# Altium schematic symbol library Symbols.SchLib: 143 symbols (part 2 of 5)
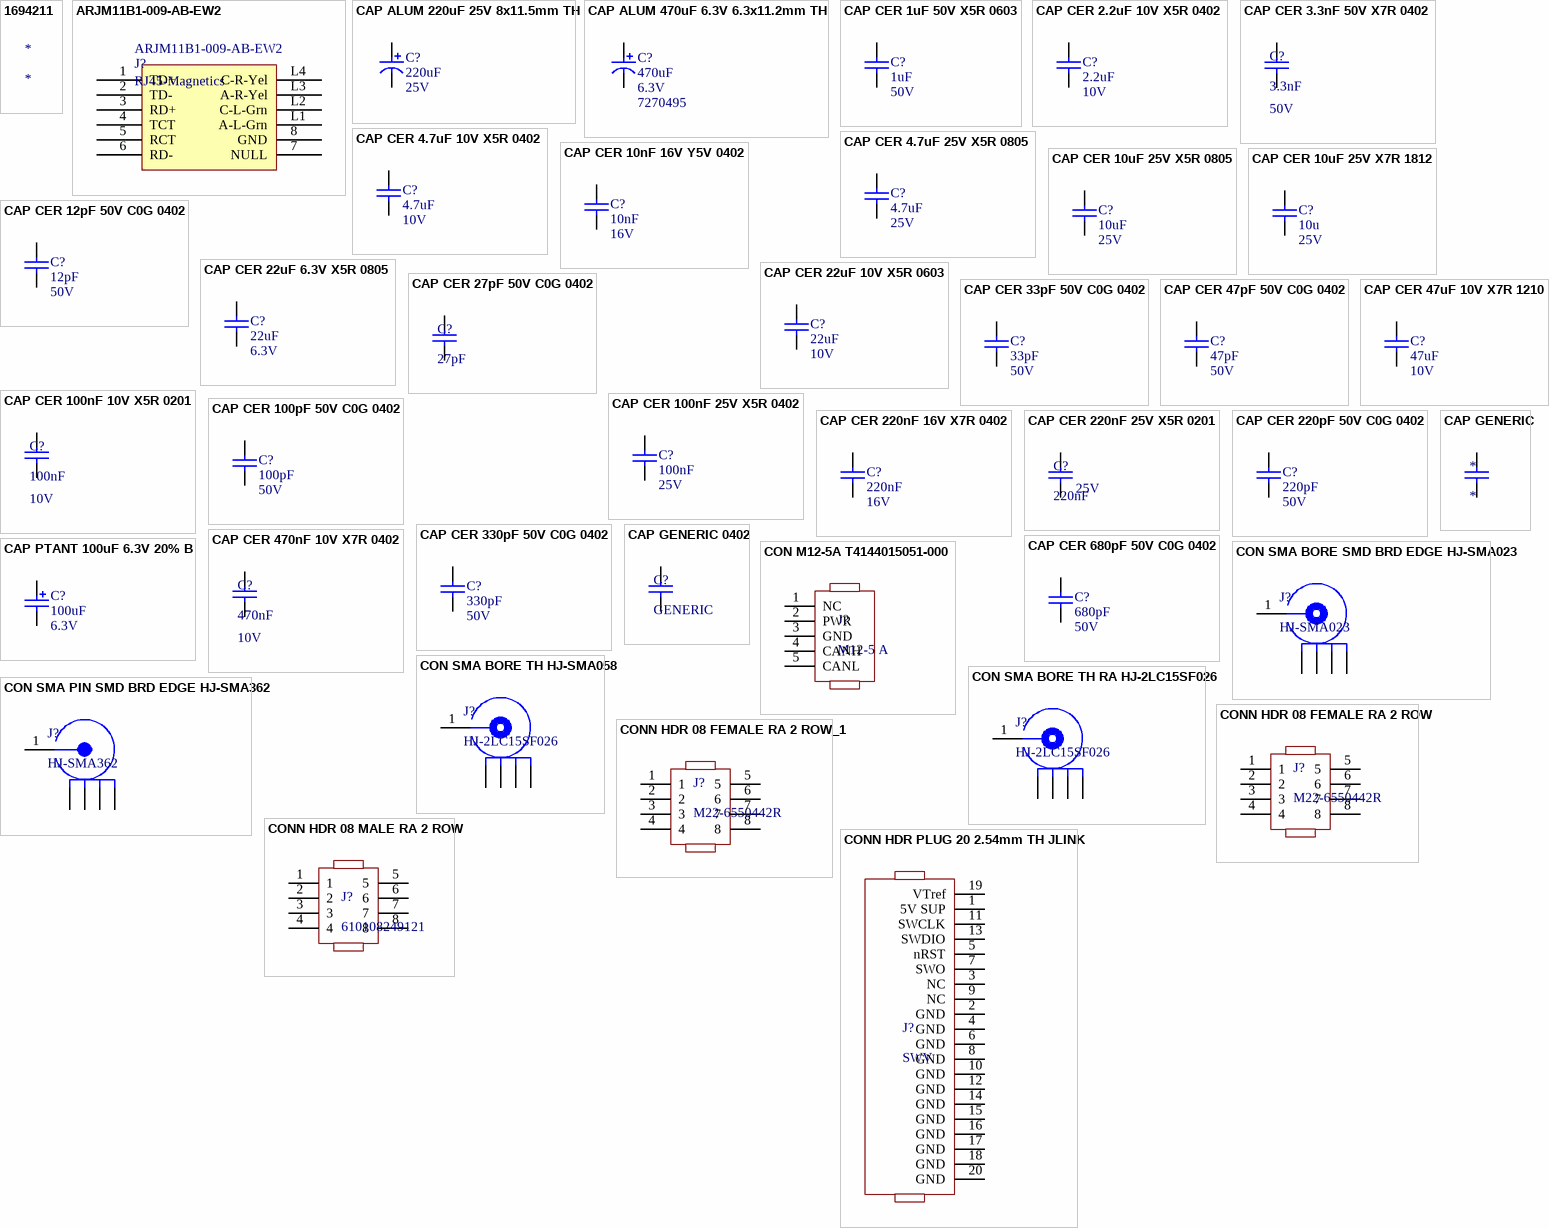
[diagram p4: symbols 1694211 to CONN HDR PLUG 20 2.54mm TH JLINK]

## CONN HDR 08 FEMALE RA 2 ROW
designator J?, comment M22-6550442R
Conn Socket Strip RCP 8 POS 2mm Solder RA SMD T/R; Manufacturer: Harwin; Connector Type: Receptacle,Forked; Number of Positions: 8; Current Rating: 2A; Supplier 1: Newark; Manufacturer Part Number: M22-6550442R; RoHS: Yes; Category: Connectors; Stock 1: 750; Pricing 1: 1=1.17000, 100=0.91900, 250=0.84000, 500=0.76600, 1000=0.71200 (USD); Mount: Surface Mount; Contact Plating: Gold; Contact Material: Bronze; Insulation Color: Black; Insulation Material: Polymer; Contact Shape: Square; Min Operating Temperature: -40°C; Max Operating Temperature: 105°C; Fastening Type: Push,Pull; Packaging: Cut Tape; Number of Rows: 2; Termination: Solder; Flammability Rating: UL94 V-0; RoHS Compliant: Yes; ComponentLink1URL: https://cdn.harwin.com/pdfs/M22-655R.pdf?src-supplier=Digi-Key; ComponentLink1Description: https://cdn.harwin.com/pdfs/M22-655R.pdf?src-supplier=Digi-Key; Supplier Part Number 1: 45AJ6425
footprint CONN HDR 08 FEMALE RA 2ROW
pins: 1, 2, 3, 4, 5, 6, 7, 8

## CONN HDR 08 FEMALE RA 2 ROW_1
designator J?, comment M22-6550442R
Conn Socket Strip RCP 8 POS 2mm Solder RA SMD T/R; Manufacturer: Harwin; Connector Type: Receptacle,Forked; Number of Positions: 8; Current Rating: 2A; Supplier 1: Newark; Manufacturer Part Number: M22-6550442R; RoHS: Yes; Category: Connectors; Stock 1: 750; Pricing 1: 1=1.17000, 100=0.91900, 250=0.84000, 500=0.76600, 1000=0.71200 (USD); Mount: Surface Mount; Contact Plating: Gold; Contact Material: Bronze; Insulation Color: Black; Insulation Material: Polymer; Contact Shape: Square; Min Operating Temperature: -40°C; Max Operating Temperature: 105°C; Fastening Type: Push,Pull; Packaging: Cut Tape; Number of Rows: 2; Termination: Solder; Flammability Rating: UL94 V-0; RoHS Compliant: Yes; ComponentLink1URL: https://cdn.harwin.com/pdfs/M22-655R.pdf?src-supplier=Digi-Key; ComponentLink1Description: https://cdn.harwin.com/pdfs/M22-655R.pdf?src-supplier=Digi-Key; Supplier Part Number 1: 45AJ6425
footprint CONN HDR 08 FEMALE RA 2ROW
pins: 1, 2, 3, 4, 5, 6, 7, 8

## CONN HDR 08 MALE RA 2 ROW
designator J?, comment 610108249121
SMT Angled Pin Header WR-PHD, Pitch 2.54 mm, Dual Row, 8 pins; Manufacturer: Wurth Electronics; Current Rating: 3A; Number of Positions: 8; Gender: Male; Voltage Rating: 250V; Pitch: 0.1inch; Supplier 1: Newark; Manufacturer Part Number: 610108249121; RoHS: Yes; Category: Connectors; Stock 1: 350; Pricing 1: 1=1.53000, 10=1.52000, 25=1.49000, 50=1.46000, 100=1.36000 (USD); Mount: Surface Mount; Number of Pins: 8; Contact Material: Copper Alloy; Color: Black; Contact Plating: Gold; Contact Shape: Square; Contact Finish - Mating: GOLD; Insulation Material: Nylon; Insulation Color: Black; Packaging: Cut Tape; Number of Rows: 2; Termination: Solder; Number of Contacts: 8; Connector Type: Header; Fastening Type: Pull; Series: WR-PHD; Contact Type: Male Pin; Row Spacing: 0.1inch; Contact Mating Length: 0.236inch; RoHS Compliant: Yes; Flammability Rating: UL94 V-0; ComponentLink1URL: http://www.farnell.com/cad/1889791.pdf?src-supplier=Element14; ComponentLink1Description: http://www.farnell.com/cad/1889791.pdf?src-supplier=Element14; ComponentLink2URL: https://katalog.we-online.de/em/datasheet/6101xx249121.pdf?src-supplier=Digi-Key; ComponentLink2Description: https://katalog.we-online.de/em/datasheet/6101xx249121.pdf?src-supplier=Digi-Key; ComponentLink3URL: https://www.distrelec.bizhttp://katalog.we-online.de/em/datasheet/6101xx249121.pdf?mime=application%2Fpdf&src-supplier=Distrelec; ComponentLink3Description: https://www.distrelec.bizhttp://katalog.we-online.de/em/datasheet/6101xx249121.pdf?mime=application%2Fpdf&src-supplier=Distrelec; Supplier Part Number 1: 72Y1215
footprint CONN HDR 08 MALE RA 2ROW - duplicate
pins: 1, 2, 3, 4, 5, 6, 7, 8

## CONN HDR PLUG 20 2.54mm TH JLINK
designator J?, comment SWV
Female, 20C, Straight .100"CC; No Mt. w/Center Polarizing Key; PBT, Brass, Gold Flash, 105 C; Manufacturer: Sullins; Manufacturer Part Number: SFH11-PBPC-D10-ST-BK; Number of Positions: 20; Connector Type: Header; Pitch: 0.1inch; Supplier 1: Digi-Key; RoHS: Yes; Category: Headers and Wire Housings; Stock 1: 18166; Pricing 1: 1=1.15000, 10=0.96800, 80=0.86925, 440=0.71118, 1000=0.63216, 5000=0.57070 (USD); Mount: Through Hole; Color: Black; Contact Plating: Gold; Package Quantity: 1; Number of Rows: 2; Packaging: Tray; Termination: Solder; Series: SFH11; Contact Type: Female Socket; Row Spacing: 0.1inch; Lead Free: Lead Free; RoHS Compliant: Yes; ComponentLink1URL: https://datasheet.ciiva.com/754/sfh11-pxxc-dxx-st-xx11160-c-754558.pdf?src-supplier=Digi-Key; ComponentLink1Description: https://datasheet.ciiva.com/754/sfh11-pxxc-dxx-st-xx11160-c-754558.pdf?src-supplier=Digi-Key; Supplier Part Number 1: S9197-ND
footprint CONN HDR PLUG 20 2.54 TH STLINKV2
pins: 1 5V SUP, 2 GND, 3 NC, 4 GND, 5 nRST, 6 GND, 7 SWO, 8 GND, 9 NC, 10 GND, 11 SWCLK, 12 GND, 13 SWDIO, 14 GND, 15 GND, 16 GND, 17 GND, 18 GND, 19 VTref, 20 GND

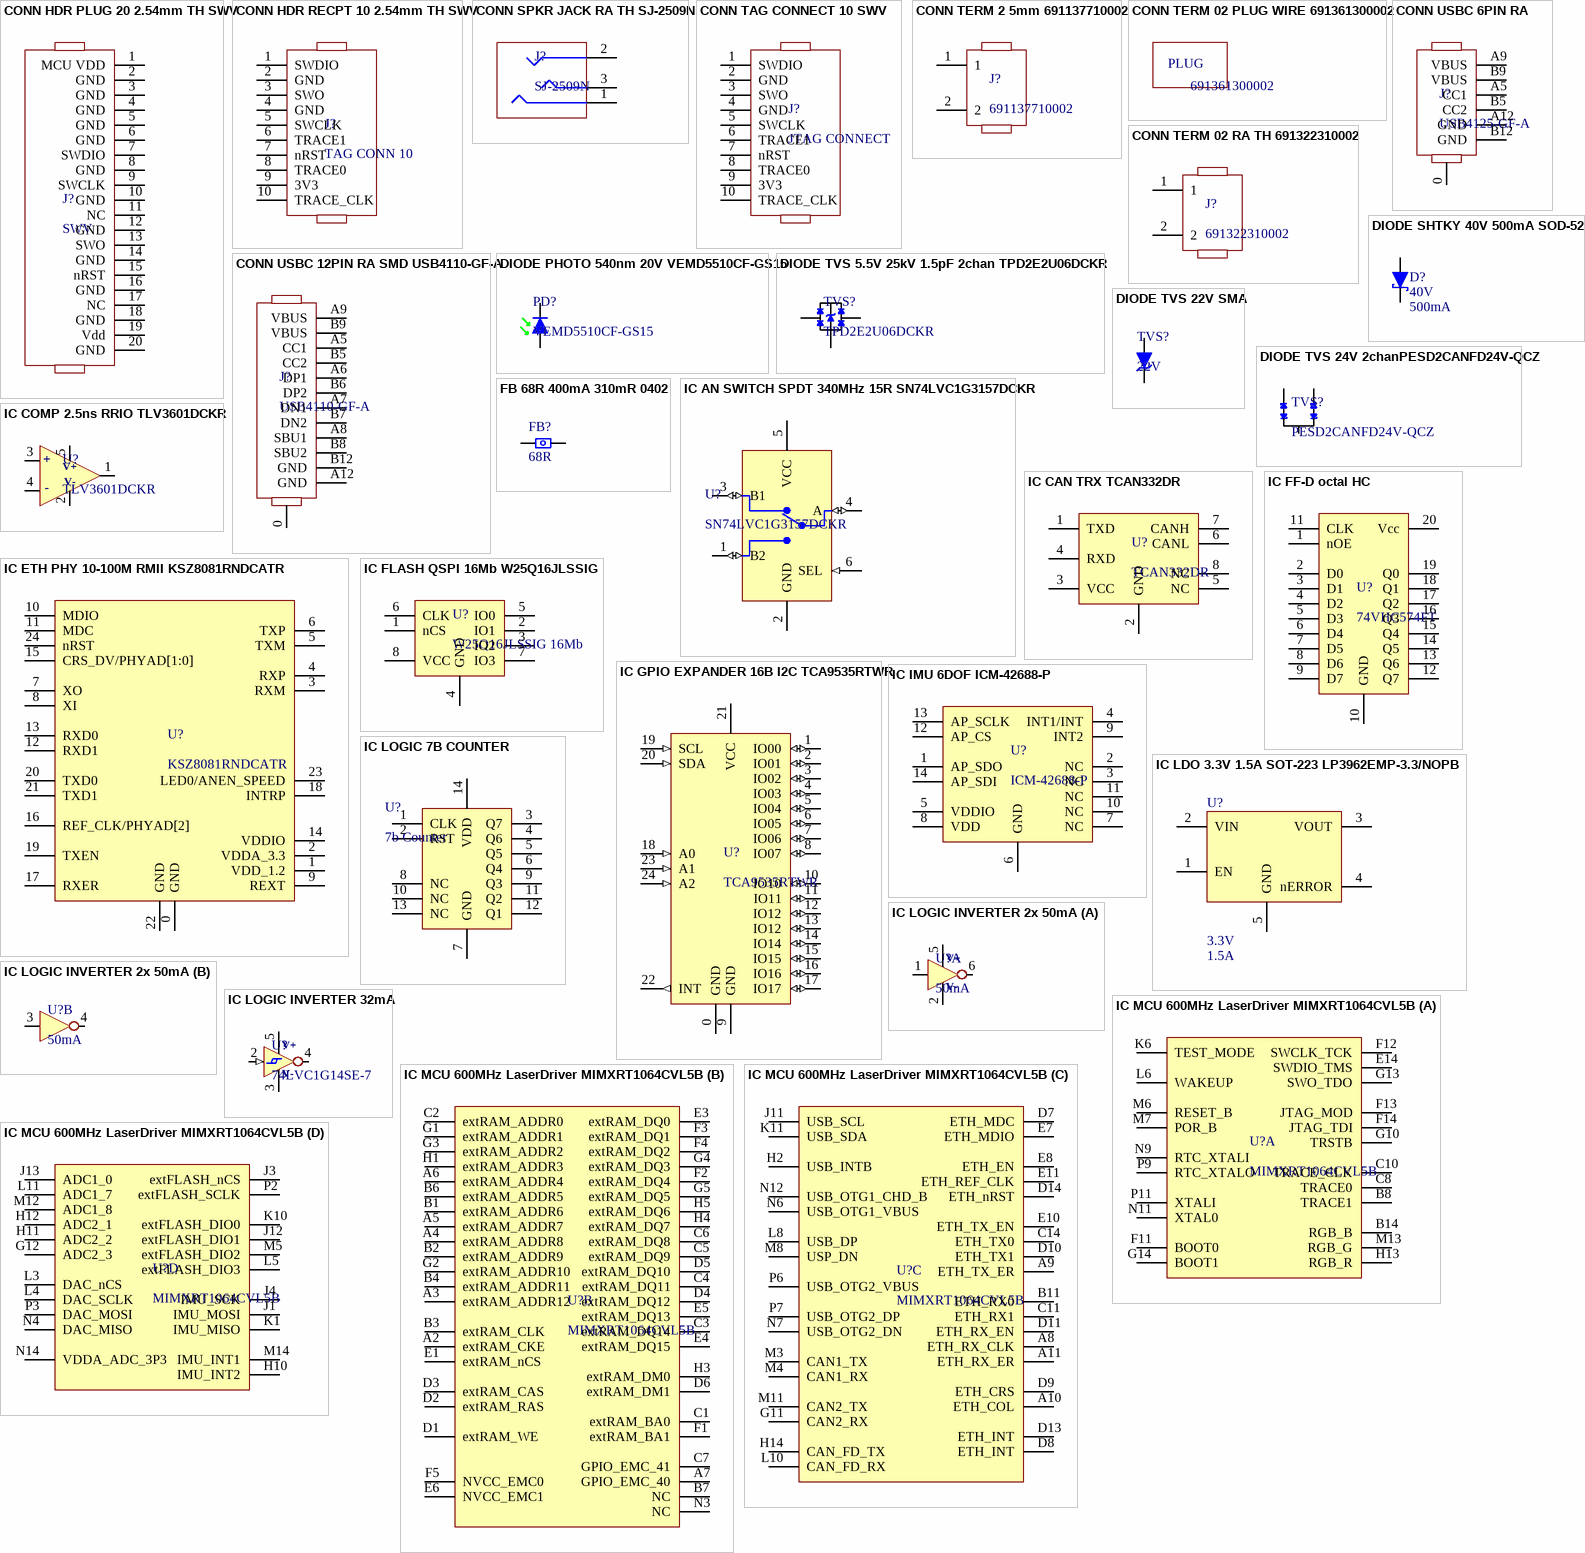
[diagram p1: symbols CONN HDR PLUG 20 2.54mm TH SWV to IC MCU 600MHz LaserDriver MIMXRT1064CVL5B]

## CONN HDR PLUG 20 2.54mm TH SWV
designator J?, comment SWV
Female, 20C, Straight .100"CC; No Mt. w/Center Polarizing Key; PBT, Brass, Gold Flash, 105 C; Manufacturer: Sullins; Manufacturer Part Number: SFH11-PBPC-D10-ST-BK; Number of Positions: 20; Connector Type: Header; Pitch: 0.1inch; Supplier 1: Digi-Key; RoHS: Yes; Category: Headers and Wire Housings; Stock 1: 18166; Pricing 1: 1=1.15000, 10=0.96800, 80=0.86925, 440=0.71118, 1000=0.63216, 5000=0.57070 (USD); Mount: Through Hole; Color: Black; Contact Plating: Gold; Package Quantity: 1; Number of Rows: 2; Packaging: Tray; Termination: Solder; Series: SFH11; Contact Type: Female Socket; Row Spacing: 0.1inch; Lead Free: Lead Free; RoHS Compliant: Yes; ComponentLink1URL: https://datasheet.ciiva.com/754/sfh11-pxxc-dxx-st-xx11160-c-754558.pdf?src-supplier=Digi-Key; ComponentLink1Description: https://datasheet.ciiva.com/754/sfh11-pxxc-dxx-st-xx11160-c-754558.pdf?src-supplier=Digi-Key; Supplier Part Number 1: S9197-ND
footprint CONN HDR PLUG 20 2.54 TH STLINKV2
pins: 1 MCU VDD, 2 GND, 3 GND, 4 GND, 5 GND, 6 GND, 7 SWDIO, 8 GND, 9 SWCLK, 10 GND, 11 NC, 12 GND, 13 SWO, 14 GND, 15 nRST, 16 GND, 17 NC, 18 GND, 19 Vdd, 20 GND

## CONN HDR RECPT 10 2.54mm TH SWV
designator J?, comment TAG CONN 10
Conn Shrouded Header HDR 10 POS 2.54mm Solder ST Thru-Hole; Manufacturer: On-Shore Technology; Manufacturer Part Number: 302-S101; Number of Positions: 10; Connector Type: Male Pin; Pitch: 0.1inch; Supplier 1: Digi-Key; RoHS: Yes; Category: Connectors; Stock 1: 61558; Pricing 1: 1=0.29000, 10=0.24800, 100=0.19290, 500=0.16538, 1000=0.13781, 5000=0.11812, 10000=0.11025 (USD); Mount: Through Hole; Color: Black; Contact Plating: Gold; Number of Rows: 2; Packaging: Tray; Termination: Solder; Series: 302; Contact Type: Male Pin; Row Spacing: 0.1inch; ComponentLink1URL: https://datasheet.ciiva.com/732/302-sxxx-732946.pdf?src-supplier=Digi-Key; ComponentLink1Description: https://datasheet.ciiva.com/732/302-sxxx-732946.pdf?src-supplier=Digi-Key; Supplier Part Number 1: ED1543-ND
footprint CONN HDR RECPT 10 2.54 TH TAG CONNECT
pins: 1 SWDIO, 2 GND, 3 SWO, 4 GND, 5 SWCLK, 6 TRACE1, 7 nRST, 8 TRACE0, 9 3V3, 10 TRACE_CLK

## CONN SPKR JACK RA TH SJ-2509N
designator J?, comment SJ-2509N
2.5 mm, Stereo, Right Angle, Through Hole, Audio Jack Connector; Manufacturer: CUI Devices; Supplier 1: Digi-Key; Manufacturer Part Number: SJ-2509N; RoHS: Yes; Category: Audio / Video Connectors; Stock 1: 21425; Pricing 1: 1=0.73000, 10=0.63300, 25=0.57880, 50=0.54480, 100=0.52210, 250=0.47664, 500=0.45396, 1000=0.37452, 2500=0.34047 (USD); Supplier Part Number 1: CP-S2509N-ND
footprint CONN SPKR JACK SJ-2509N
pins: 1, 2, 3

## CONN TAG CONNECT 10 SWV
designator J?, comment JTAG CONNECT  (no BOM)
10 pin jtag tag connect; ComponentLink1Description: http://www.tag-connect.com/Materials/TC-C2000%20DATA%20SHEET.PDF; ComponentLink1URL: http://www.tag-connect.com/Materials/TC-C2000%20DATA%20SHEET.PDF; ComponentLink2Description: http://www.tag-connect.com/Materials/TC2050-IDC%20Datasheet.pdf; ComponentLink2URL: http://www.tag-connect.com/Materials/TC2050-IDC%20Datasheet.pdf
footprint TAG_CONNECT_10PIN
pins: 1 SWDIO, 2 GND, 3 SWO, 4 GND, 5 SWCLK, 6 TRACE1, 7 nRST, 8 TRACE0, 9 3V3, 10 TRACE_CLK

## CONN TERM 2 5mm 691137710002
designator J?, comment 691137710002
Series 1377 - 5.00 mm Horizontal Entry with Pressure Clamp WR-TBL, 2 pin; Manufacturer: Wurth Electronics; Plating: Copper Alloy; Number of Levels: 1; Number of Positions Per Level: 2; Current: 16A; Voltage: 300V; Wire Gauge (Max): 30AWG; Wire Gauge (Min): 12AWG; Supplier 1: RSComponents; Manufacturer Part Number: 691137710002; RoHS: No; Category: Terminal Blocks; Stock 1: 201; Pricing 1: 500=0.28300, 1000=0.26300, 2500=0.24500 (USD); Mount: Through Hole; Color: Green; Housing Material: PC; Min Operating Temperature: -30°C; Max Operating Temperature: 120°C; Packaging: Bulk; Termination: Screw; ComponentLink1URL: https://katalog.we-online.de/em/datasheet/691137710002.pdf?src-supplier=Digi-Key; ComponentLink1Description: https://katalog.we-online.de/em/datasheet/691137710002.pdf?src-supplier=Digi-Key; Supplier Part Number 1: 1769908
footprint CON TERM BLK 2 691137710002 (Footprint not found)
pins: 1, 2

## CONN TERM 02 PLUG WIRE 691361300002
designator ?, comment 691361300002
Conn Terminal Block F 2 POS 3.81mm Screw RA Cable Mount 10A Box; Manufacturer: Wurth Electronics; Voltage Rating: 300V; Number of Positions Per Level: 2; Number of Levels: 1; Wire/Cable Gauge: 26AWG; Wire Gauge (Min): 16AWG; Pitch: 0.15inch; Stripping Length: -7mm; Supplier 1: RSComponents; Manufacturer Part Number: 691361300002; RoHS: Yes; Category: Terminal Blocks; Stock 1: 1; Pricing 1: 1=2.69000, 10=2.34000, 50=2.25900, 100=2.08500, 250=1.97700 (USD); Mount: Free Hanging; Case/Package: 300; Color: Green; Contact Material: Brass; Package Quantity: 620; Packaging: Bulk; Current Rating: 10A; Termination: Screw; Current: 10A; Voltage: 300V; Number of Contacts: 2; Series: WR-TBL Series 361; Length: 15.8mm; Width: 7.62mm; Height: 11.1mm; Wire Gauge (Max): 26AWG; REACH SVHC: Unknown; RoHS Compliant: Yes; ComponentLink1URL: https://datasheet.ciiva.com/7992/1442236-7992407.pdf?src-supplier=Element14; ComponentLink1Description: https://datasheet.ciiva.com/7992/1442236-7992407.pdf?src-supplier=Element14; ComponentLink2URL: https://datasheet.ciiva.com/796/6913613000xx-796212.pdf?src-supplier=Digi-Key; ComponentLink2Description: https://datasheet.ciiva.com/796/6913613000xx-796212.pdf?src-supplier=Digi-Key; Supplier Part Number 1: 8250828
text: PLUG

## CONN TERM 02 RA TH 691322310002
designator J?, comment 691322310002
322; 3.81mm Pitch Straight Pluggable Term Block; PCB Header; Through Hole; 2 Way; Manufacturer: Wurth Electronics; Number of Positions Per Level: 2; Number of Levels: 1; Current: 10A; Voltage: 300V; Pitch: 0.15inch; Supplier 1: RSComponents; Manufacturer Part Number: 691322310002; RoHS: Yes; Category: Terminal Blocks; Stock 1: 2489; Pricing 1: 1=0.35000, 10=0.32300, 50=0.25600, 100=0.24200 (USD); Mount: Through Hole; Contact Plating: Tin; Contact Material: Brass; Color: Green; Number of Rows: 1; Package Quantity: 620; Packaging: Bulk; Termination: Solder; Number of Contacts: 2; Series: WR-TBL Series 322; Length: 10.5mm; Width: 9.01mm; Height: 9.2mm; REACH SVHC: Unknown; RoHS Compliant: Yes; ComponentLink1URL: https://datasheet.ciiva.com/48692/001088715-da-01-en-wr-tbl-terminal-block322-691322310002-48692859.pdf?src-supplier=Conrad; ComponentLink1Description: https://datasheet.ciiva.com/48692/001088715-da-01-en-wr-tbl-terminal-block322-691322310002-48692859.pdf?src-supplier=Conrad; Supplier Part Number 1: 8246658
footprint CONN TERM 02 RA TH 691322310002
pins: 1, 2

## CONN USBC 6PIN RA
designator J?, comment USB4125-GF-A
6 Position 20 VDC 4.25 A USB Type C 2.0 Right Angle Receptacle USB Connector; Manufacturer: Global Connector Technology; Supplier 1: Newark; Manufacturer Part Number: USB4125-GF-A; RoHS: No; Stock 1: 3000; Pricing 1: 1=0.60400, 10=0.53100, 25=0.50000, 50=0.47900, 100=0.45800, 250=0.41600, 500=0.37500, 1000=0.37500 (USD); Supplier Part Number 1: 71AJ9395
footprint CONN USBC 6pin RA
pins: 0, A5 CC1, A9 VBUS, A12 GND, B5 CC2, B9 VBUS, B12 GND

## CONN USBC 12PIN RA SMD USB4110-GF-A
designator J?, comment USB4110-GF-A
Conn USB Type C RCP 16 POS 0.3mm/0.5mm Solder ST SMD 16 Terminal 1 Port T/R; Manufacturer: Global Connector Technology; Supplier 1: Newark; Manufacturer Part Number: USB4110-GF-A; RoHS: No; Category: USB Connectors; Stock 1: 4800; Pricing 1: 1=1.34000, 10=1.18000, 25=1.11000, 50=1.07000, 100=1.02000, 250=0.92400, 500=0.83200, 1200=0.83200 (USD); ComponentLink1URL: https://gct.co/files/drawings/usb4110.pdf?src-supplier=Digi-Key; ComponentLink1Description: https://gct.co/files/drawings/usb4110.pdf?src-supplier=Digi-Key; Supplier Part Number 1: 71AJ9394
footprint CONN USBC 12PIN RA SMD
pins: 0, A5 CC1, A6 DP1, A7 DN1, A8 SBU1, A9 VBUS, A12 GND, B5 CC2, B6 DP2, B7 DN2, B8 SBU2, B9 VBUS, B12 GND

## DIODE PHOTO 540nm 20V VEMD5510CF-GS15
designator PD?, comment VEMD5510CF-GS15
Photodiode PIN Chip 540nm 4-Pin SMD T/R; Manufacturer 1: Vishay Semiconductors; Response Time: 70ns; Max Reverse Voltage (DC): 20V; Dark Current: 200pA; Viewing Angle: 130°; Supplier 1: Mouser; Supplier Part Number 1: 78-VEMD5510CF-GS15; Manufacturer Part Number 1: VEMD5510CF-GS15; RoHS 1: Yes; Description 1: Photodiode PIN Chip 540nm 4-Pin SMD T/R; Stock 1: 678; Pricing 1: 1=2.27, 10=1.52, 50=1.52, 100=1.17, 1000=0.855, 10000=0.824 (USD); Mounting Technology: Surface Mount; Case/Package: SMD/SMT; Min Operating Temperature: -40°C; Max Operating Temperature: 100°C; Wavelength: 540nm; Diode Type: PIN; ComponentLink1URL: http://www.vishay.com/docs/84387/vemd5510cf.pdf?src-supplier=Digi-Key; ComponentLink1Description: http://www.vishay.com/docs/84387/vemd5510cf.pdf?src-supplier=Digi-Key
footprint PIN 4x5 4pin (Chip Resistor, 2-Leads, Body 3.20x1.60mm, IPC Medium Density)
pins: 1 CA, 2 AN

## DIODE SHTKY 40V 500mA SOD-523
designator D?, comment 40V  Forward Current: 500mA
500 mA, 40 V, Schottky Barrier Diode Schottky Barrier Diode, 500 mA, 40 V; Manufacturer: ON Semiconductor; Manufacturer Part Number: NSR05T40XV2T5G; Reverse Recovery Time: 20ns; Forward Voltage: 640mV; Max Forward Surge Current (Ifsm): 3A; Element Configuration: Single; Supplier 1: Digi-Key; RoHS: Yes; Category: Schottky Diodes; Stock 1: 15606; Pricing 1: 1=0.39000, 10=0.31700, 100=0.16800, 500=0.11050, 1000=0.07514, 2000=0.06778 (USD); Mount: Surface Mount; Case/Package: SOD; Number of Pins: 2; Max Operating Temperature: 150°C; Packaging: Cut Tape; Average Rectified Current: 500mA; Max Repetitive Reverse Voltage (Vrrm): 40V; Max Reverse Voltage (DC): 40V; REACH SVHC: No SVHC; Lead Free: Lead Free; RoHS Compliant: Yes; ComponentLink1URL: http://www.farnell.com/datasheets/2118285.pdf?src-supplier=Farnell; ComponentLink1Description: http://www.farnell.com/datasheets/2118285.pdf?src-supplier=Farnell; ComponentLink2URL: http://www.onsemi.com/pub/Collateral/NSR05T40XV2-D.PDF?src-supplier=Digi-Key; ComponentLink2Description: http://www.onsemi.com/pub/Collateral/NSR05T40XV2-D.PDF?src-supplier=Digi-Key; ComponentLink3URL: http://www.farnell.com/datasheets/2118285.pdf?src-supplier=Element14; ComponentLink3Description: http://www.farnell.com/datasheets/2118285.pdf?src-supplier=Element14; Supplier Part Number 1: NSR05T40XV2T5GOSCT-ND
footprint SOD-523 ON 502-1E (Footprint not found)
pins: 1 A, 2 K

## DIODE TVS 5.5V 25kV 1.5pF 2chan TPD2E2U06DCKR
designator TVS?, comment TPD2E2U06DCKR
Dual 1.5-pF, 5.5-V, ±25-kV ESD protection diode with 5.5-A 8/20-uS surge rating for USB 2.0 3-SC70 -40 to 125; Manufacturer: Texas Instruments; Supplier 1: Mouser; Manufacturer Part Number: TPD2E2U06DCKR; RoHS: Yes; Category: ESD and Circuit Protection ICs; Stock 1: 11900; Pricing 1: 1=0.61000, 10=0.52200, 50=0.48700, 100=0.38900, 1000=0.23700, 10000=0.20100 (USD); RoHS Compliant: Yes; ComponentLink1URL: http://www.ti.com/general/docs/suppproductinfo.tsp?distId=10&amp;gotoUrl=http%3A%2F%2Fwww.ti.com%2Flit%2Fgpn%2Ftpd2e2u06&src-supplier=Digi-Key; ComponentLink1Description: http://www.ti.com/general/docs/suppproductinfo.tsp?distId=10&amp;gotoUrl=http%3A%2F%2Fwww.ti.com%2Flit%2Fgpn%2Ftpd2e2u06&src-supplier=Digi-Key; Supplier Part Number 1: 595-TPD2E2U06DCKR
footprint SC70-3 (SOT23, 3-Leads, Body 2.00x2.10mm, Pitch 0.65mm, IPC Low Density)
pins: 1, 2, 3

## DIODE TVS 22V SMA
designator TVS?, comment 22V
Zen Tvs 400W 22V Uni Do-214Ac Tr13 / Tr Rohs Compliant: Yes; Manufacturer: Littelfuse; Manufacturer Part Number: SZ1SMA22AT3G; Supplier 1: Digi-Key; RoHS: Yes; Category: TVS Diodes; Stock 1: 8478; Pricing 1: 1=0.61000, 10=0.52400, 100=0.39130, 500=0.30744, 1000=0.23758, 2000=0.21661 (USD); RoHS Compliant: Yes; Supplier Part Number 1: F11511CT-ND
footprint DIODE SMA (Footprint not found)
pins: 1 K, 2 A

## DIODE TVS 24V 2chanPESD2CANFD24V-QCZ
designator TVS?, comment PESD2CANFD24V-QCZ
PESD2CANFD24V-QC - ESD protection for In-vehicle networks; Manufacturer: Nexperia; Supplier 1: Future Electronics; Manufacturer Part Number: PESD2CANFD24V-QCZ; RoHS: No; Category: TVS Diodes; Stock 1: 10000; Pricing 1: 5000=0.08170, 10000=0.07970, 20000=0.07780, 25000=0.07720, 75000=0.07350 (USD); Supplier Part Number 1: 8160273
footprint DFN1412D-3 (DFN, 3-Leads, Body 1.40x1.20mm, Pitch 0.71mm, IPC Medium Density)
pins: 1, 2, 3

## FB 68R 400mA 310mR 0402
designator FB?, comment 68R
Ferrite Beads Multi-Layer 68Ohm 25% 100MHz 400mA 310mOhm DCR 0402 T/R; Manufacturer: Taiyo Yuden; Manufacturer Part Number: BK1005LL680-T; DC Resistance (DCR): 310mR; Number of Lines: 1; Shielding: Unshielded; Supplier 1: Digi-Key; RoHS: Yes; Category: Ferrite Beads and Chips; Stock 1: 9707; Pricing 1: 1=0.10000, 10=0.04100, 25=0.03640, 50=0.03300, 100=0.02970, 250=0.02176, 500=0.01584, 1000=0.01551, 5000=0.01056 (USD); Mount: Surface Mount; Case/Package: 0402; Number of Pins: 2; Case Code (Metric): 1005; Case Code (Imperial): 0402; Core Material: Ferrite; Min Operating Temperature: -55°C; Max Operating Temperature: 125°C; Packaging: Tape and Reel; Package Quantity: 1; Impedance: 68R; Tolerance: 25%; Max DC Current: 400mA; Termination: SMD/SMT; Test Frequency: 100MHz; Max Current Rating: 400mA; Series: BK; Frequency: 100MHz; Length: 0.039inch; Width: 0.02inch; Height: 0.022inch; Depth: 0.55mm; Halogen Free: Halogen Free; Lead Free: Lead Free; REACH SVHC: Unknown; ComponentLink1URL: https://datasheet.ciiva.com/1013/bk1005ll680-t-ss-1013936.pdf?src-supplier=Digi-Key; ComponentLink1Description: https://datasheet.ciiva.com/1013/bk1005ll680-t-ss-1013936.pdf?src-supplier=Digi-Key; ComponentLink2URL: https://datasheet.ciiva.com/1013/mlci07-e-1013935.pdf?src-supplier=Digi-Key; ComponentLink2Description: https://datasheet.ciiva.com/1013/mlci07-e-1013935.pdf?src-supplier=Digi-Key; ComponentLink3URL: https://datasheet.ciiva.com/1013/mlci07-e-1013937.pdf?src-supplier=Digi-Key; ComponentLink3Description: https://datasheet.ciiva.com/1013/mlci07-e-1013937.pdf?src-supplier=Digi-Key; Supplier Part Number 1: 587-1860-1-ND
footprint FB0402 (Footprint not found)
pins: 1, 2

## IC AN SWITCH SPDT 340MHz 15R SN74LVC1G3157DCKR
designator U?, comment SN74LVC1G3157DCKR
5-V, 2: 1 (SPDT), 1-channel general-purpose analog switch 6-SC70 -40 to 125; Manufacturer 1: Texas Instruments; Category 1: Interface ICs; Min Supply Voltage: 1.65V; Max Supply Voltage: 5.5V; Number of Channels: 1; Bandwidth: 300MHz; Number of Outputs: 2; Turn-On Delay Time: 5.7ns; Turn-Off Delay Time: 3.8ns; Max Supply Current: 10uA; Supply Type: Single; Propagation Delay: 300ps; -3db Bandwidth: 340MHz; Supplier 1: Mouser; Supplier Part Number 1: 595-SN74LVC1G3157DCK; Manufacturer Part Number 1: SN74LVC1G3157DCKR; RoHS 1: Yes; Description 1: 5-V, 2: 1 (SPDT), 1-channel general-purpose analog switch 6-SC70 -40 to 125; Stock 1: 368361; Pricing 1: 1=0.34, 10=0.22, 50=0.22, 100=0.118, 1000=0.086, 10000=0.051 (USD); Mounting Technology: Surface Mount; Case/Package: SC; Pins: 6; Weight: 8.8E-05oz; Min Operating Temperature: -40°C; Max Operating Temperature: 125°C; Packaging: Tape and Reel; Number of Inputs: 1; Termination: SMD/SMT; Number of Bits: 1; Series: -; Number of Circuits: 1; Supply Current: 10uA; Length: 2mm; Width: 1.25mm; Height: 0.9mm; Radiation Hardening: No; RoHS Compliant: Yes; Reach SVHC Compliant: No; Lead Free: Lead Free; ComponentLink1URL: https://datasheet.ciiva.com/34301/756764-34301477.pdf?src-supplier=Jameco; ComponentLink1Description: https://datasheet.ciiva.com/34301/756764-34301477.pdf?src-supplier=Jameco; ComponentLink2URL: https://datasheet.ciiva.com/15127/getdatasheetpartid-187022-15127388.pdf?src-supplier=Verical; ComponentLink2Description: https://datasheet.ciiva.com/15127/getdatasheetpartid-187022-15127388.pdf?src-supplier=Verical; ComponentLink3URL: https://datasheet.ciiva.com/41461/001187224-da-01-en-ic-switch-sn74lvc1g3157dckr-sc-70-6-tid-41461882.pdf?src-supplier=Conrad; ComponentLink3Description: https://datasheet.ciiva.com/41461/001187224-da-01-en-ic-switch-sn74lvc1g3157dckr-sc-70-6-tid-41461882.pdf?src-supplier=Conrad; ComponentLink4URL: https://datasheet.ciiva.com/1514/1857156-1514550.pdf?src-supplier=Element14; ComponentLink4Description: https://datasheet.ciiva.com/1514/1857156-1514550.pdf?src-supplier=Element14; ComponentLink5URL: https://datasheet.ciiva.com/46411/1786793-46411528.pdf?src-supplier=Element14; ComponentLink5Description: https://datasheet.ciiva.com/46411/1786793-46411528.pdf?src-supplier=Element14; ComponentLink6URL: https://datasheet.ciiva.com/1669/sn74lvc1g3157-1669381.pdf?src-supplier=Digi-Key; ComponentLink6Description: https://datasheet.ciiva.com/1669/sn74lvc1g3157-1669381.pdf?src-supplier=Digi-Key; ComponentLink7URL: https://datasheet.ciiva.com/1669/sn74lvc1g3157-1669380.pdf?src-supplier=Digi-Key; ComponentLink7Description: https://datasheet.ciiva.com/1669/sn74lvc1g3157-1669380.pdf?src-supplier=Digi-Key; ComponentLink8URL: https://datasheet.ciiva.com/1669/sn74lvc1g3157-1669382.pdf?src-supplier=Digi-Key; ComponentLink8Description: https://datasheet.ciiva.com/1669/sn74lvc1g3157-1669382.pdf?src-supplier=Digi-Key; ComponentLink9URL: https://datasheet.ciiva.com/14435/sn74lvc1g3157-14435733.pdf?src-supplier=Avnet; ComponentLink9Description: https://datasheet.ciiva.com/14435/sn74lvc1g3157-14435733.pdf?src-supplier=Avnet
footprint SC70-6 (TSOP, 6-Leads, Body 2.00x1.25mm, Pitch 0.65mm, IPC Medium Density)
pins: 1 B2 (io), 2 GND (power), 3 B1 (io), 4 A (io), 5 VCC (power), 6 SEL (in)

## IC CAN TRX TCAN332DR
designator U?, comment TCAN332DR
IC TXRX CAN 3.3V 8SOIC; Manufacturer: Texas Instruments; Data Rate: 1Mbps; Number of Transmit Buffers: 1; Min Supply Voltage: 3V; Max Supply Voltage: 3.6V; Receiver Hysteresis: 120mV; Supplier 1: Arrow Electronics; Manufacturer Part Number: TCAN332DR; RoHS: Yes; Category: Interface ICs; Stock 1: 1424; Pricing 1: 1=3.09860, 10=2.71410, 25=2.59680, 100=2.24690, 250=2.11310, 500=1.92950, 1000=1.75850 (USD); Mount: Surface Mount; Case/Package: SOIC; Number of Pins: 8; Min Operating Temperature: -40°C; Max Operating Temperature: 125°C; Packaging: Cut Tape; Number of Receive Buffers: 1; Series: -; Reach SVHC Compliant: Yes; Lead Free: Lead Free; RoHS Compliant: Yes; ComponentLink1URL: http://www.ti.com/general/docs/lit/getliterature.tsp?genericPartNumber=TCAN332&amp;&amp;fileType=pdf&src-supplier=Farnell; ComponentLink1Description: http://www.ti.com/general/docs/lit/getliterature.tsp?genericPartNumber=TCAN332&amp;&amp;fileType=pdf&src-supplier=Farnell; ComponentLink2URL: http://www.ti.com/general/docs/lit/getliterature.tsp?genericPartNumber=TCAN332&&fileType=pdf&src-supplier=Element14; ComponentLink2Description: http://www.ti.com/general/docs/lit/getliterature.tsp?genericPartNumber=TCAN332&&fileType=pdf&src-supplier=Element14; ComponentLink3URL: http://www.ti.com/lit/ds/symlink/tcan332.pdf?src-supplier=Digi-Key; ComponentLink3Description: http://www.ti.com/lit/ds/symlink/tcan332.pdf?src-supplier=Digi-Key; ComponentLink4URL: http://www.ti.com/lit/gpn/tcan332?src-supplier=Mouser; ComponentLink4Description: http://www.ti.com/lit/gpn/tcan332?src-supplier=Mouser; Supplier Part Number 1: TCAN332DR
footprint SO8 6.2x5mm TI D0008A
pins: 1 TXD, 2 GND, 3 VCC, 4 RXD, 5 NC, 6 CANL, 7 CANH, 8 NC

## IC COMP 2.5ns RRIO TLV3601DCKR
designator U?, comment TLV3601DCKR
2.5-ns high-speed rail-to-rail comparator with push-pull outputs 5-SC70 -40 to 125; Manufacturer: Texas Instruments; Supplier 1: Digi-Key; Manufacturer Part Number: TLV3601DCKR; RoHS: No; Stock 1: 1261; Pricing 1: 1=3.37000, 10=3.02700, 25=2.86200, 100=2.48040, 250=2.35320, 500=2.11152, 1000=2.10000 (USD); Supplier Part Number 1: 296-TLV3601DCKRCT-ND
footprint SC70 5pin TI DCK
pins: 1, 2 V-, 3 +, 4 -, 5 V+

## IC ETH PHY 10-100M RMII KSZ8081RNDCATR
designator U?, comment KSZ8081RNDCATR
Ethernet PHY, 100Mbps, -40 to 85°C, VQFN-24, RoHS; Manufacturer: Microchip; Number of Channels: 1; Operating Supply Voltage: 3.3V; Min Supply Voltage: 3.135V; Max Supply Voltage: 3.465V; Max Supply Current: 47mA; Simplex/Duplex: Full Duplex; Supplier 1: Mouser; Manufacturer Part Number: KSZ8081RNDCATR; RoHS: Yes; Category: Ethernet Interface ICs; Stock 1: 40785; Pricing 1: 1=1.46000, 10=1.46000, 50=1.33000, 100=1.33000, 1000=1.31000, 10000=1.31000 (USD); Mount: Surface Mount; Case/Package: QFN; Number of Pins: 24; Min Operating Temperature: 0°C; Max Operating Temperature: 70°C; Packaging: Tape and Reel; Data Rate: 100Mbps; Package Quantity: 1000; Number of Transceivers: 1; Series: -; Length: 4mm; Width: 4mm; Height: 0.83mm; Reach SVHC Compliant: Yes; Lead Free: Lead Free; RoHS Compliant: Yes; ComponentLink1URL: https://datasheet.ciiva.com/6635/ksz8081rna-rnd-6635258.pdf?src-supplier=Digi-Key; ComponentLink1Description: https://datasheet.ciiva.com/6635/ksz8081rna-rnd-6635258.pdf?src-supplier=Digi-Key; ComponentLink2URL: https://datasheet.ciiva.com/16458/ksz8081rna-rnd-16458395.pdf?src-supplier=Future+Electronics; ComponentLink2Description: https://datasheet.ciiva.com/16458/ksz8081rna-rnd-16458395.pdf?src-supplier=Future+Electronics; Supplier Part Number 1: 998-KSZ8081RNDCATR
footprint QFN50P400X400X90_HS-25N (QFN, 24-Leads, Body 4.00x4.00mm, Pitch 0.50mm, Thermal Pad 2.60x2.60mm, IPC Medium Density)
pins: 0 GND, 1 VDD_1.2, 2 VDDA_3.3, 3 RXM, 4 RXP, 5 TXM, 6 TXP, 7 XO, 8 XI, 9 REXT, 10 MDIO, 11 MDC, 12 RXD1, 13 RXD0, 14 VDDIO, 15 CRS_DV/PHYAD[1:0], 16 REF_CLK/PHYAD[2], 17 RXER, 18 INTRP, 19 TXEN, 20 TXD0, 21 TXD1, 22 GND, 23 LED0/ANEN_SPEED, 24 nRST

## IC FF-D octal HC
designator U?, comment 74VHC574FT
D-Type Bus Interface Pos-Edge 3-ST 8-Element 20-Pin TSSOP; Manufacturer: Toshiba; Propagation Delay: 10.6ns; High Level Output Current: 8mA; Clock Edge Trigger Type: Positive Edge; Number of Elements: 1; Number of Bits per Element: 8; Frequency: 115MHz; Quiescent Current: 4uA; Input Capacitance: 4pF; Supplier 1: RSComponents; Manufacturer Part Number: 74VHC574FT; RoHS: Yes; Category: Latches and Flip Flops; Stock 1: 1; Pricing 1: 2500=0.02700 (USD); Mount: Surface Mount; Case/Package: TSSOP; Number of Pins: 20; Min Operating Temperature: -40°C; Max Operating Temperature: 85°C; Packaging: Cut Tape; Low Level Output Current: 8mA; RoHS Compliant: Yes; ComponentLink1URL: https://toshiba.semicon-storage.com/info/docget.jsp?did=14038&amp;prodName=74VHC574FT&src-supplier=Digi-Key; ComponentLink1Description: https://toshiba.semicon-storage.com/info/docget.jsp?did=14038&amp;prodName=74VHC574FT&src-supplier=Digi-Key; Supplier Part Number 1: 1713350
footprint TSOP20 - 65P640X120 (TSOP, 20-Leads, Body 6.50x4.40mm, Pitch 0.65mm, IPC Medium Density)
pins: 1 nOE, 2 D0, 3 D1, 4 D2, 5 D3, 6 D4, 7 D5, 8 D6, 9 D7, 10 GND, 11 CLK, 12 Q7, 13 Q6, 14 Q5, 15 Q4, 16 Q3, 17 Q2, 18 Q1, 19 Q0, 20 Vcc

## IC FLASH QSPI 16Mb W25Q16JLSSIG
designator U?, comment W25Q16JLSSIG 16Mb
NOR Flash Serial (SPI, Dual SPI, Quad SPI) 2.5V/3.3V 16M-bit 2M x 8 6ns 8-Pin SOIC Tube; Manufacturer: Winbond; Supplier 1: Digi-Key; Manufacturer Part Number: W25Q16JLSSIG; RoHS: Yes; Category: Memory; Stock 1: 5181; Pricing 1: 1=0.57000, 10=0.56100, 25=0.52120, 50=0.51820, 100=0.46020, 250=0.45436, 500=0.44748, 1000=0.43553, 5000=0.39152 (USD); RoHS Compliant: Yes; Supplier Part Number 1: 256-W25Q16JLSSIG-ND
footprint SOC8W 7.9x5.3mm (SOP, 8-Leads, Body 5.28x5.28mm, Pitch 1.27mm, IPC Medium Density)
pins: 1 nCS, 2 IO1, 3 IO2, 4 GND, 5 IO0, 6 CLK, 7 IO3, 8 VCC

## IC GPIO EXPANDER 16B I2C TCA9535RTWR
designator U?, comment TCA9535RTWR
IC I/O EXPANDER I2C 16B 24WQFN / I2C/SMBus Interface 100kHz/400kHz 5.5V 24-Pin WQFN EP T/R; Manufacturer 1: Texas Instruments; Category 1: Integrated Circuits (ICs); Number of I/Os: 16; Min Supply Voltage: 1.65V; Frequency: 400kHz; Output Type: PUSH-PULL; Supplier 1: Mouser; Supplier Part Number 1: 595-TCA9535RTWR; Manufacturer Part Number 1: TCA9535RTWR; RoHS 1: Yes; Description 1: IC I/O EXPANDER I2C 16B 24WQFN / I2C/SMBus Interface 100kHz/400kHz 5.5V 24-Pin WQFN EP T/R; Stock 1: 4729; Pricing 1: 1=1.28, 10=1.15, 50=1.09, 100=0.895, 1000=0.584, 10000=0.513 (USD); Case/Package: QFN; Pins: 24; Min Operating Temperature: -40°C; Max Operating Temperature: 85°C; Package Quantity: 3000; Packaging: Tape and Reel; Max Supply Voltage: 5.5V; Clock Frequency: 400kHz; Series: -; Reach SVHC Compliant: No; Lead Free: Lead Free; RoHS Compliant: Yes; ComponentLink1URL: https://datasheet.ciiva.com/1780/tca9535-1780418.pdf?src-supplier=Digi-Key; ComponentLink1Description: https://datasheet.ciiva.com/1780/tca9535-1780418.pdf?src-supplier=Digi-Key; ComponentLink2URL: https://datasheet.ciiva.com/41460/001187868-da-01-en-ic-i-o-expander-tca9535rtwr-wqfn-24-tid-41460608.pdf?src-supplier=Conrad; ComponentLink2Description: https://datasheet.ciiva.com/41460/001187868-da-01-en-ic-i-o-expander-tca9535rtwr-wqfn-24-tid-41460608.pdf?src-supplier=Conrad; ComponentLink3URL: https://datasheet.ciiva.com/14195/tca9535-14195183.pdf?src-supplier=Avnet; ComponentLink3Description: https://datasheet.ciiva.com/14195/tca9535-14195183.pdf?src-supplier=Avnet; ComponentLink4URL: https://datasheet.ciiva.com/1780/tca9535-1780419.pdf?src-supplier=Digi-Key; ComponentLink4Description: https://datasheet.ciiva.com/1780/tca9535-1780419.pdf?src-supplier=Digi-Key; ComponentLink5URL: https://datasheet.ciiva.com/1780/tca9535-1780420.pdf?src-supplier=Digi-Key; ComponentLink5Description: https://datasheet.ciiva.com/1780/tca9535-1780420.pdf?src-supplier=Digi-Key
footprint QFN50P400X400X80_HS-25N (PQFN, 24-Leads, Body 4.00x4.00mm, Pitch 0.50mm, Thermal Pad 2.45x2.45mm, IPC Medium Density)
pins: 0 GND (power), 1 IO00 (io), 2 IO01 (io), 3 IO02 (io), 4 IO03 (io), 5 IO04 (io), 6 IO05 (io), 7 IO06 (io), 8 IO07 (io), 9 GND (power), 10 IO10 (io), 11 IO11 (io), 12 IO12 (io), 13 IO12 (io), 14 IO14 (io), 15 IO15 (io), 16 IO16 (io), 17 IO17 (io), 18 A0 (in), 19 SCL (in), 20 SDA (in), 21 VCC (power), 22 INT (out), 23 A1 (in), 24 A2 (in)

## IC IMU 6DOF ICM-42688-P
designator U?, comment ICM-42688-P
Accelerometer and Gyroscope 6-Axis MEMS Motion Tracking Device Digital-OUT 14-Pin LGA T/R; Manufacturer: TDK InvenSense; Sensor Type: Accelerometer,Gyroscope,6 Axis; Supplier 1: Rs; Manufacturer Part Number: ICM-42688-P; RoHS: No; Category: Inertial Measurement Units (IMUs); Stock 1: 98; Pricing 1: 2=7.49000, 100=4.73500, 500=3.73000, 1000=3.61000, 2500=3.49000 (GBP); Series: -; ComponentLink1URL: https://media.digikey.com/pdf/Data%20Sheets/TDK%20PDFs/ICM-42688-P_DS_Rev1.2.pdf?src-supplier=Digi-Key; ComponentLink1Description: https://media.digikey.com/pdf/Data%20Sheets/TDK%20PDFs/ICM-42688-P_DS_Rev1.2.pdf?src-supplier=Digi-Key; Supplier Part Number 1: 2182218
footprint PQFN50P300X250X97-14 ICM-42688-P (PQFN, 14-Leads, Body 3.00x2.50mm, Pitch 0.50mm, IPC Medium Density)
pins: 1 AP_SDO, 2 NC, 3 NC, 4 INT1/INT, 5 VDDIO, 6 GND, 7 NC, 8 VDD, 9 INT2, 10 NC, 11 NC, 12 AP_CS, 13 AP_SCLK, 14 AP_SDI

## IC LDO 3.3V 1.5A SOT-223 LP3962EMP-3.3/NOPB
designator U?, comment 3.3V  Max Output Current: 1.5A
1.5-A, high-accuracy, low-dropout voltage regulator with enable 5-SOT-223 -40 to 125; Manufacturer: TI National Semiconductor; Manufacturer Part Number: LP3962EMP-3.3/NOPB; Min Input Voltage: 2.5V; Max Input Voltage: 7V; Number of Outputs: 1; Polarity: Positive; Accuracy: 1.5%; Output Type: Fixed; Dropout Voltage: 380mV; Quiescent Current: 4mA; Supplier 1: Digi-Key; RoHS: Yes; Category: Voltage Regulators - Linear; Stock 1: 372; Pricing 1: 1=3.18000, 10=2.85800, 25=2.70240, 100=2.34190, 250=2.22180, 500=1.99362 (USD); Mount: Surface Mount; Case/Package: SOT-223; Number of Pins: 5; Contact Plating: Tin; Min Operating Temperature: -40°C; Max Operating Temperature: 125°C; Output Voltage: 3.3V; Packaging: Tape and Reel; Output Current: 1.5A; Max Supply Voltage: 7V; Min Supply Voltage: 2.5V; Package Quantity: 1000; Max Output Voltage: 3.3V; Termination: SMD/SMT; Output Voltage Accuracy: 1.5%; Current Rating: 1.5A; Radiation Hardening: No; REACH SVHC: No SVHC; Lead Free: Lead Free; RoHS Compliant: Yes; ComponentLink1URL: https://datasheet.ciiva.com/6591/lp3962-6591525.pdf?src-supplier=Digi-Key; ComponentLink1Description: https://datasheet.ciiva.com/6591/lp3962-6591525.pdf?src-supplier=Digi-Key; ComponentLink2URL: https://datasheet.ciiva.com/6591/lp3962-6591526.pdf?src-supplier=Digi-Key; ComponentLink2Description: https://datasheet.ciiva.com/6591/lp3962-6591526.pdf?src-supplier=Digi-Key; ComponentLink3URL: https://datasheet.ciiva.com/6591/lp3962-6591527.pdf?src-supplier=Digi-Key; ComponentLink3Description: https://datasheet.ciiva.com/6591/lp3962-6591527.pdf?src-supplier=Digi-Key; ComponentLink4URL: https://datasheet.ciiva.com/14278/lp3962-14278919.pdf?src-supplier=Avnet; ComponentLink4Description: https://datasheet.ciiva.com/14278/lp3962-14278919.pdf?src-supplier=Avnet; Supplier Part Number 1: LP3962EMP-3.3/NOPBCT-ND
footprint SOT223-5 TI NDC0005A (Footprint not found)
pins: 1 EN, 2 VIN, 3 VOUT, 4 nERROR, 5 GND

## IC LOGIC 7B COUNTER
designator U?, comment 7b Counter
MC14024BDG 7-stage Binary Counter; Up Counter; 3 - 18 V; 14-Pin SOIC; Manufacturer: ON Semiconductor; Direction: Up,Unidirectional; Max Supply Voltage: 18V; Min Supply Voltage: 3V; Number of Elements: 1; Propagation Delay: 2000ns; Number of Output Lines: 7; Reset: Asynchronous; Frequency: 12MHz; Output Characteristics: DIFFERENTIAL; Supplier 1: Digi-Key; Manufacturer Part Number: MC14024BDG; RoHS: Yes; Category: Counters; Stock 1: 1443; Pricing 1: 1=0.63000, 10=0.55600, 25=0.52240, 100=0.42640, 250=0.39608, 500=0.33708, 1000=0.27825 (USD); Mount: Surface Mount; Case/Package: SOIC; Number of Pins: 14; Min Operating Temperature: -55°C; Max Operating Temperature: 125°C; Packaging: Rail/Tube; Package Quantity: 55; Number of Circuits: 1; Number of Input Lines: 1; Logic Function: Counter; Number of Bits per Element: 7; Number of Bits: 7; Turn-On Delay Time: 2000ns; Series: 4000B; Technology: CMOS; Number of Functions: 1; Supply Voltage-Nom: 18V; Length: 8.75mm; Width: 4mm; Height: 1.5mm; Radiation Hardening: No; REACH SVHC: No SVHC; Lead Free: Lead Free; Halogen Free: Halogen Free; RoHS Compliant: Yes; ComponentLink1URL: https://datasheet.ciiva.com/15093/getdatasheetpartid-147916-15093453.pdf?src-supplier=Verical; ComponentLink1Description: https://datasheet.ciiva.com/15093/getdatasheetpartid-147916-15093453.pdf?src-supplier=Verical; ComponentLink2URL: https://datasheet.ciiva.com/1506/1691447-1506837.pdf?src-supplier=Element14; ComponentLink2Description: https://datasheet.ciiva.com/1506/1691447-1506837.pdf?src-supplier=Element14; ComponentLink3URL: https://datasheet.ciiva.com/1622/76285-1622497.pdf?src-supplier=Newark; ComponentLink3Description: https://datasheet.ciiva.com/1622/76285-1622497.pdf?src-supplier=Newark; ComponentLink4URL: https://datasheet.ciiva.com/16977/0900766b805fa2a2-16977232.pdf?src-supplier=Allied+Electronics; ComponentLink4Description: https://datasheet.ciiva.com/16977/0900766b805fa2a2-16977232.pdf?src-supplier=Allied+Electronics; ComponentLink5URL: https://datasheet.ciiva.com/8252/mc14024b-d-8252619.pdf?src-supplier=Avnet; ComponentLink5Description: https://datasheet.ciiva.com/8252/mc14024b-d-8252619.pdf?src-supplier=Avnet; ComponentLink6URL: https://datasheet.ciiva.com/16392/mc14024b-d-16392830.pdf?src-supplier=Future+Electronics; ComponentLink6Description: https://datasheet.ciiva.com/16392/mc14024b-d-16392830.pdf?src-supplier=Future+Electronics; ComponentLink7URL: https://datasheet.ciiva.com/26221/mc14024b-d-26221639.pdf?src-supplier=Avnet+Europe; ComponentLink7Description: https://datasheet.ciiva.com/26221/mc14024b-d-26221639.pdf?src-supplier=Avnet+Europe; Supplier Part Number 1: MC14024BDGOS-ND
footprint SOIC14 8.65x3.9 (SOIC, 14-Leads, Body 8.65x3.90mm, Pitch 1.27mm, IPC Medium Density)
pins: 1 CLK, 2 RST, 3 Q7, 4 Q6, 5 Q5, 6 Q4, 7 GND, 8 NC, 9 Q3, 10 NC, 11 Q2, 12 Q1, 13 NC, 14 VDD

## IC LOGIC INVERTER 2x 50mA
designator U?, comment 50mA
Buffer 2-CH Push-Pull CMOS 6-Pin SOT-23 T/R; Manufacturer: Texas Instruments; Manufacturer Part Number: SN74LVC2GU04DBVR; Logic Function: Buffer,Inverting; Polarity: Non-Inverting; Min Supply Voltage: 1.65V; Max Supply Voltage: 5.5V; Number of Channels: 2; Propagation Delay: 3.2ns; Number of Bits per Element: 1; High Level Output Current: -32mA; Low Level Output Current: 32mA; Turn-On Delay Time: 8.6ns; Quiescent Current: 10uA; Schmitt Trigger Input: No; Nominal Supply Current: 250mA; Supplier 1: Arrow Electronics; RoHS: Yes; Category: Buffers, Drivers and Transceivers; Stock 1: 261; Pricing 1: 3000=0.09770 (USD); Mount: Surface Mount; Case/Package: SOT-23; Number of Pins: 6; Contact Plating: Tin,Matte; Min Operating Temperature: -40°C; Max Operating Temperature: 125°C; Packaging: Tape and Reel; Number of Inputs: 2; Number of Outputs: 2; Package Quantity: 3000; Number of Elements: 2; Number of Input Lines: 2; Number of Output Lines: 2; Number of Gates: 2; Number of Bits: 2; Number of Circuits: 2; Output Current: 32mA; Max Output Current: 32mA; Termination: SMD/SMT; Length: 2.9mm; Width: 1.6mm; Height: 1.15mm; Radiation Hardening: No; Lead Free: Lead Free; RoHS Compliant: Yes; REACH SVHC: No SVHC; ComponentLink1URL: https://datasheet.ciiva.com/27051/1046431-27051311.pdf?src-supplier=Jameco; ComponentLink1Description: https://datasheet.ciiva.com/27051/1046431-27051311.pdf?src-supplier=Jameco; ComponentLink2URL: https://datasheet.ciiva.com/7744/1771621-7744033.pdf?src-supplier=Element14; ComponentLink2Description: https://datasheet.ciiva.com/7744/1771621-7744033.pdf?src-supplier=Element14; ComponentLink3URL: https://datasheet.ciiva.com/15094/getdatasheetpartid-133639-15094759.pdf?src-supplier=Verical; ComponentLink3Description: https://datasheet.ciiva.com/15094/getdatasheetpartid-133639-15094759.pdf?src-supplier=Verical; ComponentLink4URL: https://datasheet.ciiva.com/14301/sn74lvc2g34-14301216.pdf?src-supplier=Avnet; ComponentLink4Description: https://datasheet.ciiva.com/14301/sn74lvc2g34-14301216.pdf?src-supplier=Avnet; ComponentLink5URL: https://datasheet.ciiva.com/46439/1785989-46439658.pdf?src-supplier=Element14; ComponentLink5Description: https://datasheet.ciiva.com/46439/1785989-46439658.pdf?src-supplier=Element14; ComponentLink6URL: https://datasheet.ciiva.com/1834/sn74lvc2g34-1834122.pdf?src-supplier=Digi-Key; ComponentLink6Description: https://datasheet.ciiva.com/1834/sn74lvc2g34-1834122.pdf?src-supplier=Digi-Key; ComponentLink7URL: https://datasheet.ciiva.com/1834/sn74lvc2g34-1834121.pdf?src-supplier=Digi-Key; ComponentLink7Description: https://datasheet.ciiva.com/1834/sn74lvc2g34-1834121.pdf?src-supplier=Digi-Key; ComponentLink8URL: https://datasheet.ciiva.com/1834/sn74lvc2g34-1834123.pdf?src-supplier=Digi-Key; ComponentLink8Description: https://datasheet.ciiva.com/1834/sn74lvc2g34-1834123.pdf?src-supplier=Digi-Key; ComponentLink9URL: https://datasheet.ciiva.com/14301/sn74lvc2g34-14301215.pdf?src-supplier=Avnet; ComponentLink9Description: https://datasheet.ciiva.com/14301/sn74lvc2g34-14301215.pdf?src-supplier=Avnet; ComponentLink10URL: https://datasheet.ciiva.com/16532/sn74lvc2g34-16532026.pdf?src-supplier=Avnet+Asia; ComponentLink10Description: https://datasheet.ciiva.com/16532/sn74lvc2g34-16532026.pdf?src-supplier=Avnet+Asia; ComponentLink11URL: https://datasheet.ciiva.com/48703/001074027-da-01-en-ic-buffer-d-sn74lvc2g34dbvr-sot-23-6-tid-48703269.pdf?src-supplier=Conrad; ComponentLink11Description: https://datasheet.ciiva.com/48703/001074027-da-01-en-ic-buffer-d-sn74lvc2g34dbvr-sot-23-6-tid-48703269.pdf?src-supplier=Conrad; Supplier Part Number 1: SN74LVC2G34DBVR
footprint SOT-23 6 2.9x2.8mm TI DBV0006A (SOT23, 6-Leads, Body 2.90x2.80mm, Pitch 0.95mm, IPC Medium Density)
part A pins: 1, 2 GND, 5 PWR, 6
part B pins: 3, 4
part A text: V+; V-

## IC LOGIC INVERTER 32mA
designator U?, comment 74LVC1G14SE-7
74LVC Series 5.5 V Surface Mount Single Schmitt-Trigger Inverter - SOT-353; Manufacturer 1: Diodes; Category 1: Logic Gates; Logic Function: Inverter,Schmitt Trigger; High Level Output Current: -32mA; Low Level Output Current: 32mA; Number of Elements: 1; Propagation Delay: 6.5ns; Max Supply Voltage: 5.5V; Min Supply Voltage: 1.65V; Quiescent Current: 200uA; Turn-On Delay Time: 14ns; Schmitt Trigger Input: Yes; Output Type: PUSH-PULL; Input Type: SCHMITT TRIGGER; Supplier 1: Future Electronics; Supplier Part Number 1: 9038438; Manufacturer Part Number 1: 74LVC1G14SE-7; RoHS 1: Yes; Description 1: 74LVC Series 5.5 V Surface Mount Single Schmitt-Trigger Inverter - SOT-353; Stock 1: 741000; Pricing 1: 3000=0.0324, 9000=0.0313, 30000=0.0301, 60000=0.0294, 120000=0.0282 (USD); Mounting Technology: Surface Mount; Case/Package: SOT-353; Pins: 5; Min Operating Temperature: -40°C; Max Operating Temperature: 125°C; Packaging: Tape and Reel; Output Current: 32mA; Number of Inputs: 1; Package Quantity: 3000; Number of Circuits: 1; Series: 74LVC; Technology: CMOS; Length: 2.2mm; Width: 1.35mm; Height: 1mm; Radiation Hardening: No; Reach SVHC Compliant: No; Lead Free: Lead Free; RoHS Compliant: Yes; ComponentLink1URL: https://datasheet.ciiva.com/22694/1718765-22694659.pdf?src-supplier=Element14; ComponentLink1Description: https://datasheet.ciiva.com/22694/1718765-22694659.pdf?src-supplier=Element14; ComponentLink2URL: https://datasheet.ciiva.com/1507/1718765-1507989.pdf?src-supplier=Element14; ComponentLink2Description: https://datasheet.ciiva.com/1507/1718765-1507989.pdf?src-supplier=Element14
footprint SC70 5pin TI DCK
pins: 2 A (in), 3 GND (power), 4 Y (out), 5 PWR (power)
text: V+; V-

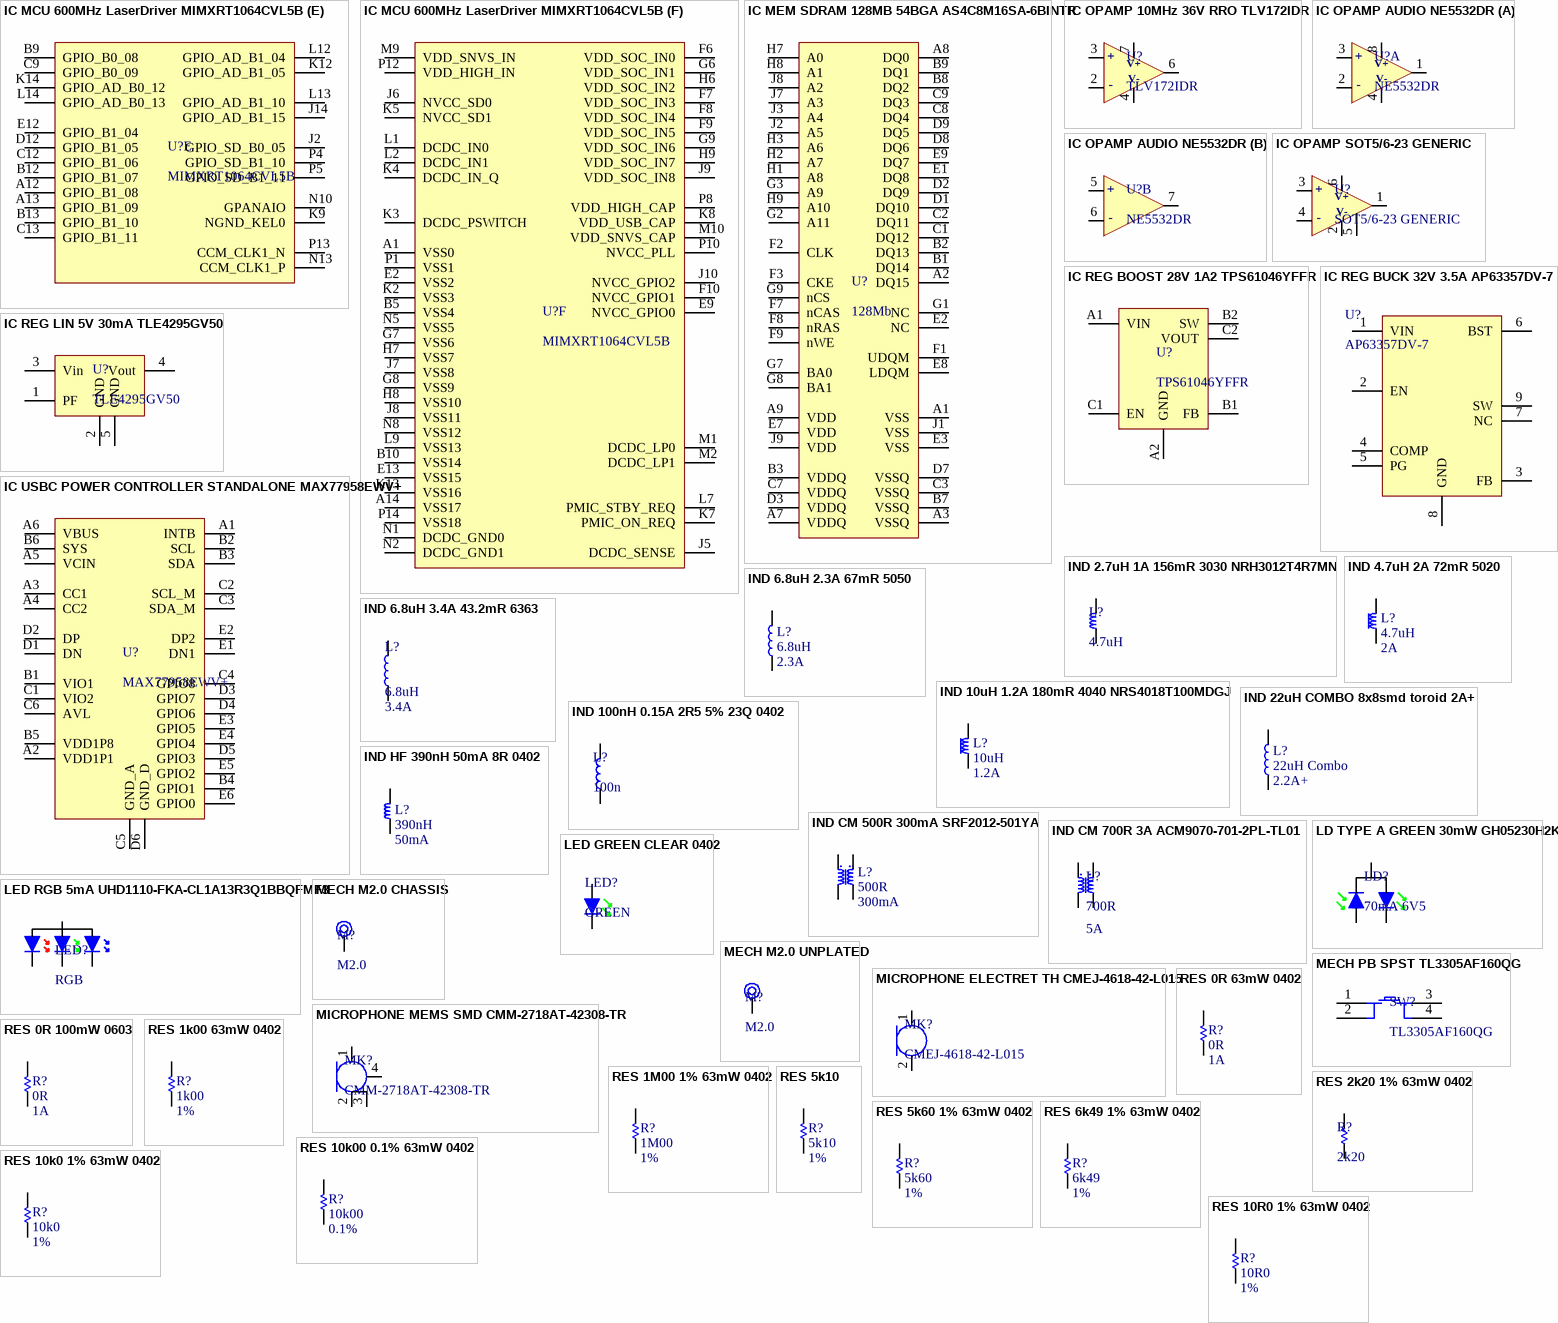
[diagram p2: symbols IC MCU 600MHz LaserDriver MIMXRT1064CVL5B to RES 10R0 1% 63mW 0402]

## IC MCU 600MHz LaserDriver MIMXRT1064CVL5B
designator U?, comment MIMXRT1064CVL5B
i.MXRT1064 USB Fix 10 / TRAY TRAY MULTIPLE DP BAKEABLE RoHS Compliant: Yes; Manufacturer: NXP Semiconductors; Supplier 1: LCSC; Manufacturer Part Number: MIMXRT1064CVL5B; RoHS: Yes; Category: Microcontrollers; Stock 1: 1606; Pricing 1: 1=11.87460, 10=11.42440, 30=10.64320, 100=9.68230 (USD); Supplier Part Number 1: C2879860
footprint BGA196C65P14X14_1000X1000X143 (BGA, 196-Leads, Body 10.00x10.00mmx1.43mm, Pitch 0.65mm)
part A pins: B8 TRACE1, B14 RGB_B, C8 TRACE0, C10 TRACE_CLK, E14 SWDIO_TMS, F11 BOOT0, F12 SWCLK_TCK, F13 JTAG_MOD, F14 JTAG_TDI, G10 TRSTB, G13 SWO_TDO, G14 BOOT1, H13 RGB_R, K6 TEST_MODE, L6 WAKEUP, M6 RESET_B, M7 POR_B, M13 RGB_G, N9 RTC_XTALI, N11 XTAL0, P9 RTC_XTALO, P11 XTALI
part B pins: A2 extRAM_CKE, A3 extRAM_ADDR12, A4 extRAM_ADDR8, A5 extRAM_ADDR7, A6 extRAM_ADDR4, A7 GPIO_EMC_40, B1 extRAM_ADDR6, B2 extRAM_ADDR9, B3 extRAM_CLK, B4 extRAM_ADDR11, B6 extRAM_ADDR5, B7 NC, C1 extRAM_BA0, C2 extRAM_ADDR0, C3 extRAM_DQ14, C4 extRAM_DQ11, C5 extRAM_DQ9, C6 extRAM_DQ8, C7 GPIO_EMC_41, D1 extRAM_WE, D2 extRAM_RAS, D3 extRAM_CAS, D4 extRAM_DQ12, D5 extRAM_DQ10, D6 extRAM_DM1, E1 extRAM_nCS, E3 extRAM_DQ0, E4 extRAM_DQ15, E5 extRAM_DQ13, E6 NVCC_EMC1, F1 extRAM_BA1, F2 extRAM_DQ4, F3 extRAM_DQ1, F4 extRAM_DQ2, F5 NVCC_EMC0, G1 extRAM_ADDR1, G2 extRAM_ADDR10, G3 extRAM_ADDR2, G4 extRAM_DQ3, G5 extRAM_DQ5, H1 extRAM_ADDR3, H3 extRAM_DM0, H4 extRAM_DQ7, H5 extRAM_DQ6, N3 NC
part C pins: A8 ETH_RX_CLK, A9 ETH_TX_ER, A10 ETH_COL, A11 ETH_RX_ER, B11 ETH_RX0, C11 ETH_RX1, C14 ETH_TX0, D7 ETH_MDC, D8 ETH_INT, D9 ETH_CRS, D10 ETH_TX1, D11 ETH_RX_EN, D13 ETH_INT, D14 ETH_nRST, E7 ETH_MDIO, E8 ETH_EN, E10 ETH_TX_EN, E11 ETH_REF_CLK, G11 CAN2_RX, H2 USB_INTB, H14 CAN_FD_TX, J11 USB_SCL, K11 USB_SDA, L8 USB_DP, L10 CAN_FD_RX, M3 CAN1_TX, M4 CAN1_RX, M8 USP_DN, M11 CAN2_TX, N6 USB_OTG1_VBUS, N7 USB_OTG2_DN, N12 USB_OTG1_CHD_B, P6 USB_OTG2_VBUS, P7 USB_OTG2_DP
part D pins: G12 ADC2_3, H10 IMU_INT2, H11 ADC2_2, H12 ADC2_1, J1 IMU_MOSI, J3 extFLASH_nCS, J4 IMU_SCK, J12 extFLASH_DIO1, J13 ADC1_0, K1 IMU_MISO, K10 extFLASH_DIO0, L3 DAC_nCS, L4 DAC_SCLK, L5 extFLASH_DIO3, L11 ADC1_7, M5 extFLASH_DIO2, M12 ADC1_8, M14 IMU_INT1, N4 DAC_MISO, N14 VDDA_ADC_3P3, P2 extFLASH_SCLK, P3 DAC_MOSI
part E pins: A12 GPIO_B1_08, A13 GPIO_B1_09, B9 GPIO_B0_08, B12 GPIO_B1_07, B13 GPIO_B1_10, C9 GPIO_B0_09, C12 GPIO_B1_06, C13 GPIO_B1_11, D12 GPIO_B1_05, E12 GPIO_B1_04, J2 GPIO_SD_B0_05, J14 GPIO_AD_B1_15, K9 NGND_KEL0, K12 GPIO_AD_B1_05, K14 GPIO_AD_B0_12, L12 GPIO_AD_B1_04, L13 GPIO_AD_B1_10, L14 GPIO_AD_B0_13, N10 GPANAIO, N13 CCM_CLK1_P, P4 GPIO_SD_B1_10, P5 GPIO_SD_B1_11, P13 CCM_CLK1_N
part F pins: A1 VSS0, A14 VSS17, B5 VSS4, B10 VSS14, E2 VSS2, E9 NVCC_GPIO0, E13 VSS15, F6 VDD_SOC_IN0, F7 VDD_SOC_IN3, F8 VDD_SOC_IN4, F9 VDD_SOC_IN5, F10 NVCC_GPIO1, G6 VDD_SOC_IN1, G7 VSS6, G8 VSS9, G9 VDD_SOC_IN6, H6 VDD_SOC_IN2, H7 VSS7, H8 VSS10, H9 VDD_SOC_IN7, J5 DCDC_SENSE, J6 NVCC_SD0, J7 VSS8, J8 VSS11, J9 VDD_SOC_IN8, J10 NVCC_GPIO2, K2 VSS3, K3 DCDC_PSWITCH, K4 DCDC_IN_Q, K5 NVCC_SD1, K7 PMIC_ON_REQ, K8 VDD_USB_CAP, K13 VSS16, L1 DCDC_IN0, L2 DCDC_IN1, L7 PMIC_STBY_REQ, L9 VSS13, M1 DCDC_LP0, M2 DCDC_LP1, M9 VDD_SNVS_IN, M10 VDD_SNVS_CAP, N1 DCDC_GND0, N2 DCDC_GND1, N5 VSS5, N8 VSS12, P1 VSS1, P8 VDD_HIGH_CAP, P10 NVCC_PLL, P12 VDD_HIGH_IN, P14 VSS18

## IC MEM SDRAM 128MB 54BGA AS4C8M16SA-6BINTR
designator U?, comment 128Mb
SDR 128Mb 8M x 16 3.3V 54ball BGA 166 Mhz Tape and Reel; Manufacturer: Alliance Memory; Manufacturer Part Number: AS4C8M16SA-6BINTR; Supplier 1: Digi-Key; RoHS: Yes; Category: Memory; Stock 1: 65992; Pricing 1: 1=5.51000, 10=5.03200, 25=4.93640, 50=4.90040, 100=4.39720, 250=4.38076, 500=4.10576, 1000=3.93250 (USD); ComponentLink1URL: http://www.mouser.com/ds/2/12/128M-AS4C8M16SA-607392.pdf?src-supplier=Mouser; ComponentLink1Description: http://www.mouser.com/ds/2/12/128M-AS4C8M16SA-607392.pdf?src-supplier=Mouser; Supplier Part Number 1: 1450-AS4C8M16SA-6BINCT-ND
footprint TFBGA54 8x8 SDRAM (BGA, 54-Leads, Body 8.00x8.00mmx1.20mm, Pitch 0.80mm)
pins: A1 VSS, A2 DQ15, A3 VSSQ, A7 VDDQ, A8 DQ0, A9 VDD, B1 DQ14, B2 DQ13, B3 VDDQ, B7 VSSQ, B8 DQ2, B9 DQ1, C1 DQ12, C2 DQ11, C3 VSSQ, C7 VDDQ, C8 DQ4, C9 DQ3, D1 DQ10, D2 DQ9, D3 VDDQ, D7 VSSQ, D8 DQ6, D9 DQ5, E1 DQ8, E2 NC, E3 VSS, E7 VDD, E8 LDQM, E9 DQ7, F1 UDQM, F2 CLK, F3 CKE, F7 nCAS, F8 nRAS, F9 nWE, G1 NC, G2 A11, G3 A9, G7 BA0, G8 BA1, G9 nCS, H1 A8, H2 A7, H3 A6, H7 A0, H8 A1, H9 A10, J1 VSS, J2 A5, J3 A4, J7 A3, J8 A2, J9 VDD

## IC OPAMP 10MHz 36V RRO TLV172IDR
designator U?, comment TLV172IDR
1-Channel, 10-MHz, 36V, high slew-rate, low-noise, RRO, op amp for cost-sensitive systems 8-SOIC -40 to 125; Manufacturer: Texas Instruments; Number of Channels: 1; Slew Rate: 10V/µs; Gain Bandwidth Product: 10MHz; Input Bias Current: 10pA; Input Offset Voltage (Vos): 500uV; Operating Supply Current: 1.6mA; Output Current per Channel: 75mA; Supplier 1: Digi-Key; Manufacturer Part Number: TLV172IDR; RoHS: Yes; Category: Amplifiers - Op Amps, Buffer, Instrumentation; Stock 1: 2921; Pricing 1: 1=1.23000, 10=1.09800, 25=1.04160, 100=0.85570, 250=0.79992, 500=0.70692, 1000=0.61425 (USD); Mount: Surface Mount; Case/Package: SOIC; Number of Pins: 8; Min Operating Temperature: -40°C; Max Operating Temperature: 125°C; Packaging: Cut Tape; Number of Circuits: 1; RoHS Compliant: Yes; ComponentLink1URL: http://www.ti.com/lit/ds/symlink/tlv172.pdf?src-supplier=Digi-Key; ComponentLink1Description: http://www.ti.com/lit/ds/symlink/tlv172.pdf?src-supplier=Digi-Key; Supplier Part Number 1: 296-47279-1-ND
footprint SO8 6.2x5mm TI D0008A
pins: 2 -, 3 +, 4 V-, 6 1, 7 V+